# Altium schematic symbol library LIS3MDLTR.SchLib: 1 symbol
Pins are listed as number, name and electrical type; pins without a type are passive.

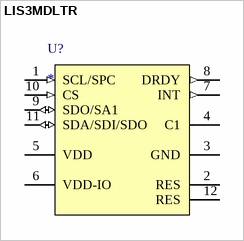
[diagram p0: symbol LIS3MDLTR]

## LIS3MDLTR
designator U?
The LIS3MDL is an ultra-low-power highperformance  three-axis magnetic sensor
pins: 1 SCL/SPC (in), 2 RES (power), 3 GND (power), 4 C1, 5 VDD (power), 6 VDD-IO (power), 7 INT (out), 8 DRDY (out), 9 SDO/SA1 (io), 10 CS (in), 11 SDA/SDI/SDO (io), 12 RES (power)